# Altium footprint library DO-SOD.PcbLib: 1 footprints
Each footprint in its own frame and in the unit in brackets; x right, y up, seen from the top. Pads: shape width x height; smd on the part's side, far side on the other; paste and mask are expansions set on the pad; w line width, h text height; cw(c..) or ccw(c..) is an arc to the next point about the centre after c.
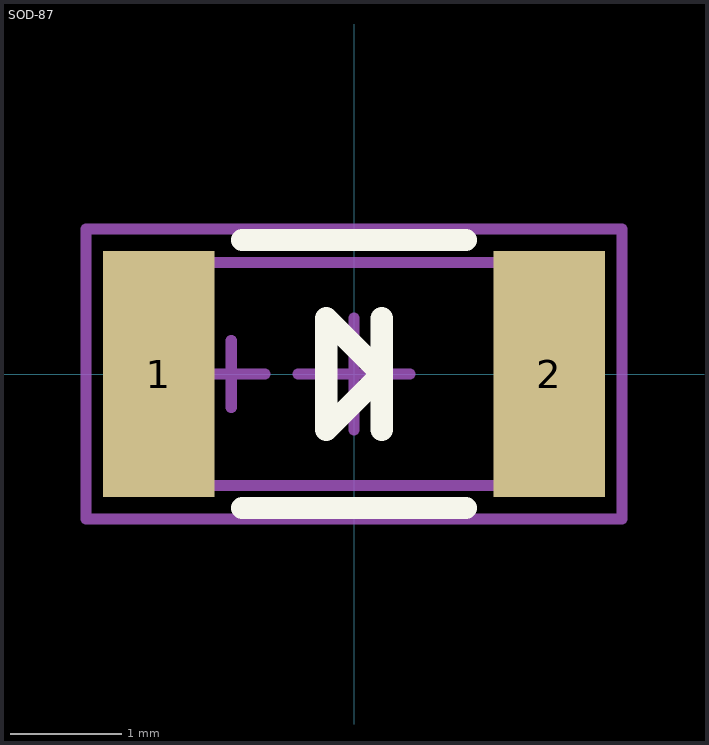
[diagram p0: the footprint, top view; thin cyan lines are the x and y axes]

## SOD-87 [mm]
height 2
pads (2):
  rect 1x2.2 smd: 1(-1.75,0) 2(1.75,0)
Top Overlay:
  lines w0.2: -1,-1.2 1,-1.2 ; -1,1.2 1,1.2 ; 0.25,-0.5 0.25,0.5 ; -0.25,-0.5 0.25,0 -0.25,0.5 -0.25,-0.5
Mechanical 7:
  lines w0.05: -2.4,-1.3 2.4,-1.3 2.4,1.3 -2.4,1.3 -2.4,-1.3
  text ".Designator" at -2,-0.5 h1.5
Mechanical 13:
  lines w0.1: -1.4,0 -0.8,0 ; -1.1,-0.3 -1.1,0.3 ; -1.8,-1 1.8,-1 1.8,1 -1.8,1 -1.8,-1
Mechanical 15:
  lines w0.1: -0.5,0 0.5,0 ; 0,-0.5 0,0.5 ; -2.4,-1.3 2.4,-1.3 2.4,1.3 -2.4,1.3 -2.4,-1.3
3D body "User Library-SOD-87.step": height 2, standoff 0, extent -1.75,-1 1.75,1